# Altium schematic symbol library ATMEGA16U2_MUR.SchLib: 1 symbol
Pins are listed as number, name and electrical type; pins without a type are passive.

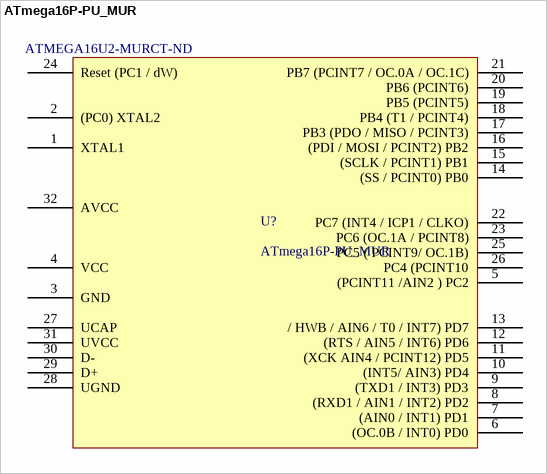
[diagram p0: symbol ATmega16P-PU_MUR]

## ATmega16P-PU_MUR
designator U?  Supplier Part Number 1: ATMEGA16U2-MURCT-ND
MCU 8-bit ATmega AVR RISC 16KB Flash 3.3V/5V 32-Pin QFN EP T/R - Tape and Reel; Manufacturer: Microchip; Manufacturer Part Number: ATMEGA16U2-MUR; Supplier 1: Digikey; RoHS: Yes; Category: Microcontrollers; Stock 1: 4098; Pricing 1: 1=3.34, 25=3.06, 100=2.75 (USD); ComponentLink1URL: https://datasheet.ciiva.com/6653/7799s-6653670.pdf?src-supplier=Digikey; ComponentLink1Description: https://datasheet.ciiva.com/6653/7799s-6653670.pdf?src-supplier=Digikey; ComponentLink2URL: https://datasheet.ciiva.com/9234/doc7799-9234711.pdf?src-supplier=Avnet; ComponentLink2Description: https://datasheet.ciiva.com/9234/doc7799-9234711.pdf?src-supplier=Avnet; ComponentLink3URL: https://datasheet.ciiva.com/18626/doc7799-18626011.pdf?src-supplier=Digikey; ComponentLink3Description: https://datasheet.ciiva.com/18626/doc7799-18626011.pdf?src-supplier=Digikey; ComponentLink4URL: https://datasheet.ciiva.com/1556/7799s-1556476.pdf?src-supplier=Digikey; ComponentLink4Description: https://datasheet.ciiva.com/1556/7799s-1556476.pdf?src-supplier=Digikey; ComponentLink5URL: https://datasheet.ciiva.com/26207/doc7799-26207294.pdf?; ComponentLink5Description: https://datasheet.ciiva.com/26207/doc7799-26207294.pdf?
footprint TQFP32
pins: 1 XTAL1, 2 (PC0) XTAL2, 3 GND, 4 VCC, 5 (PCINT11 /AIN2 ) PC2, 6 (OC.0B / INT0) PD0, 7 (AIN0 / INT1) PD1, 8 (RXD1 / AIN1 / INT2) PD2, 9 (TXD1 / INT3) PD3, 10 (INT5/ AIN3) PD4, 11 (XCK AIN4 / PCINT12) PD5, 12 (RTS / AIN5 / INT6) PD6, 13 / HWB / AIN6 / T0 / INT7) PD7, 14 (SS / PCINT0) PB0, 15 (SCLK / PCINT1) PB1, 16 (PDI / MOSI / PCINT2) PB2, 17 PB3 (PDO / MISO / PCINT3), 18 PB4 (T1 / PCINT4), 19 PB5 (PCINT5), 20 PB6 (PCINT6), 21 PB7 (PCINT7 / OC.0A / OC.1C), 22 PC7 (INT4 / ICP1 / CLKO), 23 PC6 (OC.1A / PCINT8), 24 Reset (PC1 / dW), 25 PC5 ( PCINT9/ OC.1B), 26 PC4 (PCINT10, 27 UCAP, 28 UGND, 29 D+, 30 D-, 31 UVCC, 32 AVCC